# Altium schematic symbol library ADUM5000ARWZ-RL.SchLib: 1 symbol
Pins are listed as number, name and electrical type; pins without a type are passive.

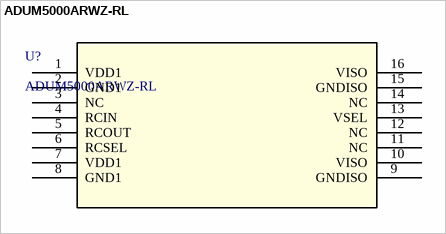
[diagram p0: symbol ADUM5000ARWZ-RL]

## ADUM5000ARWZ-RL
designator U?
Isolated DC/DC Converter; Manufacturer_Name: Analog Devices Inc; Copyright: Copyright (C) 2025 Ultra Librarian. All rights reserved.; Manufacturer_Part_Number: ADUM5000ARWZ-RL; RefDes: RefDes; Type: Type
footprint RW_16_ADI
pins: 1 VDD1 (power), 2 GND1, 3 NC, 4 RCIN, 5 RCOUT, 6 RCSEL, 7 VDD1 (power), 8 GND1, 9 GNDISO, 10 VISO (power), 11 NC, 12 NC, 13 VSEL, 14 NC, 15 GNDISO, 16 VISO (power)